# EAGLE library part 614108646521 (library WR-USB)
WR-USB Standard Connectors Characteristics Widely used Type-A and Type-B connectors, available in different orientation Various mount types: SMT, THT, THR Pin configuration: 4 pins for USB 2.0 / 9 pins for USB 3.x Durable and backward compatible with older USB versions UL, TID listing for USB standards Applications Office and desktop computing systems Industrial control and automation equipment Consumer electronics and peripherals Audio-visual and broadcast systems Details see: www.we-online.com/en/components/products/INPUT_OUTPUT_WR_USB_STANDARD Updated by Ella 2026-07-03 2026 (C) Würth Elektronik
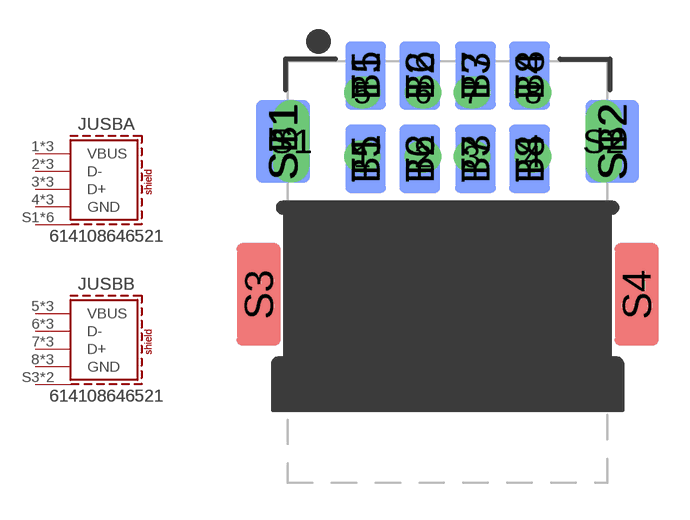
[diagram p13: symbol with the pads of 614108646521; footprint 614108646521]

Designator prefix J; gates USBA=USB2.0_TYPEA USBB=USB2.0_TYPEA

## 614108646521 (APPLICATION: USB 2.0; DATASHEET: https://www.we-online.com/redexpert/spec/614108646521?ae; GERDER: Receptacle; INTERFACE-TYPE: Type A; IR: 2.5 A; MOUNT: THR; PACKAGING: Tape and Reel; PART-NUMBER: 614108646521; PINS: 8pcs; TYPE: Stacked Horizontal; VALUE: 614108646521; WORKING-VOLTAGE: 30 V (AC))  [614108646521]
1  USBA:VBUS  pas
2  USBA:D-  pas
3  USBA:D+  pas
4  USBA:GND  pas
5  USBB:VBUS  pas
6  USBB:D-  pas
7  USBB:D+  pas
8  USBB:GND  pas
B1  USBA:VBUS  pas
B2  USBA:D-  pas
B3  USBA:D+  pas
B4  USBA:GND  pas
B5  USBB:VBUS  pas
B6  USBB:D-  pas
B7  USBB:D+  pas
B8  USBB:GND  pas
S1  USBA:SHIELD  pas
S2  USBA:SHIELD  pas
S3  USBB:SHIELD  pas
S4  USBB:SHIELD  pas
SB1  USBA:SHIELD  pas
SB2  USBA:SHIELD  pas
ST1  USBA:SHIELD  pas
ST2  USBA:SHIELD  pas
T1  USBA:VBUS  pas
T2  USBA:D-  pas
T3  USBA:D+  pas
T4  USBA:GND  pas
T5  USBB:VBUS  pas
T6  USBB:D-  pas
T7  USBB:D+  pas
T8  USBB:GND  pas

## Footprint 614108646521 (pad centres in mm)
WR-USB Standard Connectors USB 2.0, Type A, Stacked Horizontal THR, 8Pins
drill 0.8 pad 1.2 slot 1: 1 -3.5,-0.62; 2 -1,-0.62; 3 1,-0.62; 4 3.5,-0.62; 5 -3.5,2; 6 -1,2; 7 1,2; 8 3.5,2
smd 1.68 x 2.8 bottom: B1 -3.36,-0.72; B2 -1.14,-0.72; B3 1.14,-0.72; B4 3.36,-0.72; B5 -3.36,2.7; B6 -1.14,2.7; B7 1.14,2.7; B8 3.36,2.7
drill 0.7 pad 1.5 slot 2.6 rotated 90: S1 -6.4,0; S2 6.4,0
smd 1.8 x 4.2: S3 -7.75,-6.28; S4 7.75,-6.28
smd 2.2 x 3.4 bottom: SB1 -6.75,0; SB2 6.75,0
smd 2.2 x 3.4: ST1 -6.75,0; ST2 6.75,0
smd 1.68 x 2.8: T1 -3.36,2.7; T2 -1.14,2.7; T3 1.14,2.7; T4 3.36,2.7; T5 -3.36,-0.72; T6 -1.14,-0.72; T7 1.14,-0.72; T8 3.36,-0.72